# Altium schematic symbol library PowerMeter.SchLib: 26 symbols
Pins are listed as number, name and electrical type; pins without a type are passive.

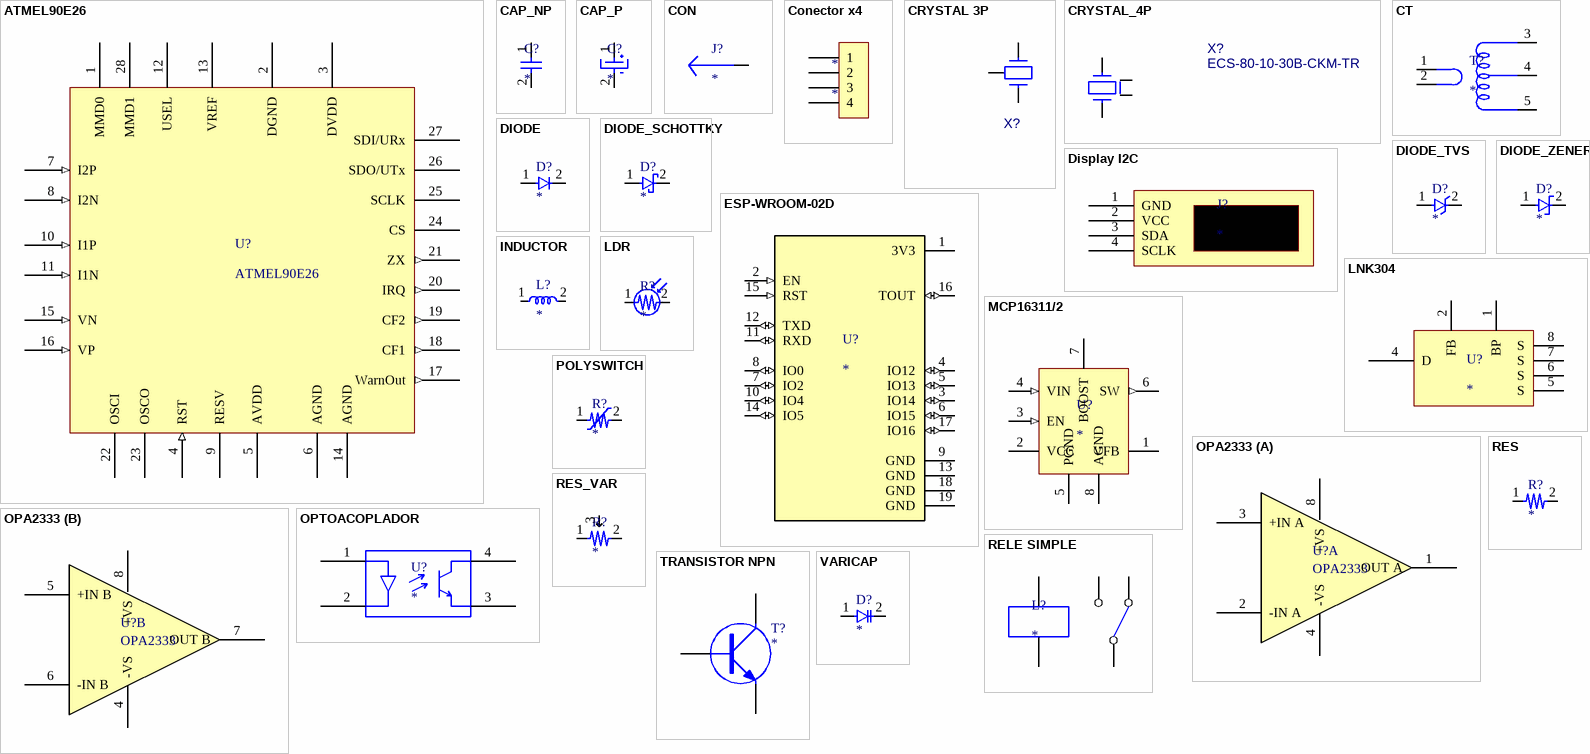
[diagram p0: symbols ATMEL90E26 to VARICAP]

## ATMEL90E26
designator U?
Single Phase Meter IC
footprint ATMEL90E26 (Single-phase energy meter)
pins: 1 MMD0, 2 DGND (power), 3 DVDD (power), 4 RST (in), 5 AVDD (power), 6 AGND (power), 7 I2P (in), 8 I2N (in), 9 RESV, 10 I1P (in), 11 I1N (in), 12 USEL, 13 VREF, 14 AGND (power), 15 VN (in), 16 VP (in), 17 WarnOut (out), 18 CF1 (out), 19 CF2 (out), 20 IRQ (out), 21 ZX (out), 22 OSCI, 23 OSCO, 24 CS, 25 SCLK, 26 SDO/UTx, 27 SDI/URx, 28 MMD1

## CAP_NP
designator C?
Not polarized capacitor
footprint C_0805 (Chip Capacitor, 2-Leads, Body 2.00x1.25mm)
footprint C_1206
pins: 1, 2

## CAP_P
designator C?
Polarized capacitor
footprint C_RAD_0.135_H_8X12
footprint C_RAD_0.135_H_8X12_S
footprint CAP400RP
footprint CAP100RP (CAP_POL d=100)
pins: 1, 2

## CON
designator J?  (no BOM)
Hole
footprint HOLE 1.3 (IN=1.3mm; OUT=2mm)
footprint HOLE 2.8 (IN=2.8mm; OUT=4mm)
pins: 1

## Conector x4
designator *
footprint Tira de pinesx4 (Tira de pines x4)
pins: 1, 2, 3, 4

## CRYSTAL 3P
designator X?
Crystal 2 Vias + GND
pins: 1, 2, 3

## CRYSTAL_4P
designator X?, comment ECS-80-10-30B-CKM-TR
Crystal 4 Vias + GND
footprint ABM3C
pins: 1, 2, 3, 4

## CT
designator T?
Current Transformer
footprint CT (Current transformer)
pins: 1 IN, 2 OUT, 3 VP, 4 MP, 5 VN

## DIODE
designator D?
Common diode
footprint D_SMA
footprint D_0805
footprint SOD_323
footprint SOD_123
pins: 1, 2

## DIODE_SCHOTTKY
designator D?
Schottky diode
pins: 1, 2

## DIODE_TVS
designator D?
Transient Voltage Supression diode
footprint SOD_923 (SODFL, 2-Leads, Body 0,60x1,00mm, IPC Medium Density)
pins: 1, 2

## DIODE_ZENER
designator D?
Zener diode
pins: 1, 2

## Display I2C
designator J?
Display OLED. Communication protocol: I2C
footprint SSD1306 (Display OLED, I2C)
pins: 1 GND (power), 2 VCC (power), 3 SDA, 4 SCLK

## ESP-WROOM-02D
designator U?
WiFi 802.11b/g/n Transceiver Module 2.4GHz ~ 2.5GHz Integrated, Trace Surface Mount; MF: Espressif Systems; MP: ESP-WROOM-02D; Value: *; SnapEDA_Link: https://www.snapeda.com/parts/ESP-WROOM-02D/Espressif%20Systems/view-part/2779866/?ref=snap; Availability: Unavailable; Price: None; Package: SMD-18 Espressif Systems
footprint ESP-WROOM-02D (Modulo wifi basado en el microcontrolador ESP8266)
pins: 1 3V3 (power), 2 EN (in), 3 IO14 (io), 4 IO12 (io), 5 IO13 (io), 6 IO15 (io), 7 IO2 (io), 8 IO0 (io), 9 GND (power), 10 IO4 (io), 11 RXD (io), 12 TXD (io), 13 GND (power), 14 IO5 (io), 15 RST (in), 16 TOUT (io), 17 IO16 (io), 18 GND (power), 19 GND (power)

## INDUCTOR
designator L?
Inductor
footprint LQH44
pins: 1, 2

## LDR
designator R?
Light dependant resistor
footprint LDR (Light Dependant Resistor)
pins: 1, 2

## LNK304
designator U?
Power controller AC-DC. Step Down
footprint LNK304 (SOIC, 8-Leads, Body 4,90x3,90mm, Pitch 1,27mm, IPC Medium Density)
pins: 1 BP, 2 FB, 4 D, 5 S, 6 S, 7 S, 8 S

## MCP16311/2
designator U?
Regulador switching step-down
footprint MCP16311/2 (MSOP-8)
pins: 1 VFB, 2 VCC, 3 EN (in), 4 VIN (in), 5 PGND (power), 6 SW (out), 7 BOOST, 8 AGND (power)

## OPA2333
designator U?
footprint SOIC8
part A pins: 1 OUT A, 2 -IN A, 3 +IN A, 4 -VS, 8 +VS
part B pins: 4 -VS, 5 +IN B, 6 -IN B, 7 OUT B, 8 +VS

## OPTOACOPLADOR
designator U?
footprint OPTO GULLWINGx6 (SOP, 6-Leads, Body 7,12x6,50mm, Pitch 2,54mm, IPC Medium Density)
pins: 1, 2, 3, 4

## POLYSWITCH
designator R?
POLYSWITCH
footprint NANOSMDC
pins: 1, 2

## RELE SIMPLE
designator L?
Rele de contacto simple
footprint RELE SERIE 964
pins: B1, B2, C1, NA1, NC1

## RES
designator R?
Resistor
footprint R_0805 (Chip Resistor, 2-Leads, Body 2.00x1.25mm, IPC Low Density)
pins: 1, 2

## RES_VAR
designator R?
Variable resistor
pins: 1, 2, 3

## TRANSISTOR NPN
designator T?
Transistor de polaridad NPN
footprint SOT23
pins: 1 B, 2 C, 3 E

## VARICAP
designator D?
Capacitor variable. Es un semiconductor.
pins: 1, 2